# Altium integrated library FPGA Generic.IntLib: 1651 symbols (part 13 of 20)
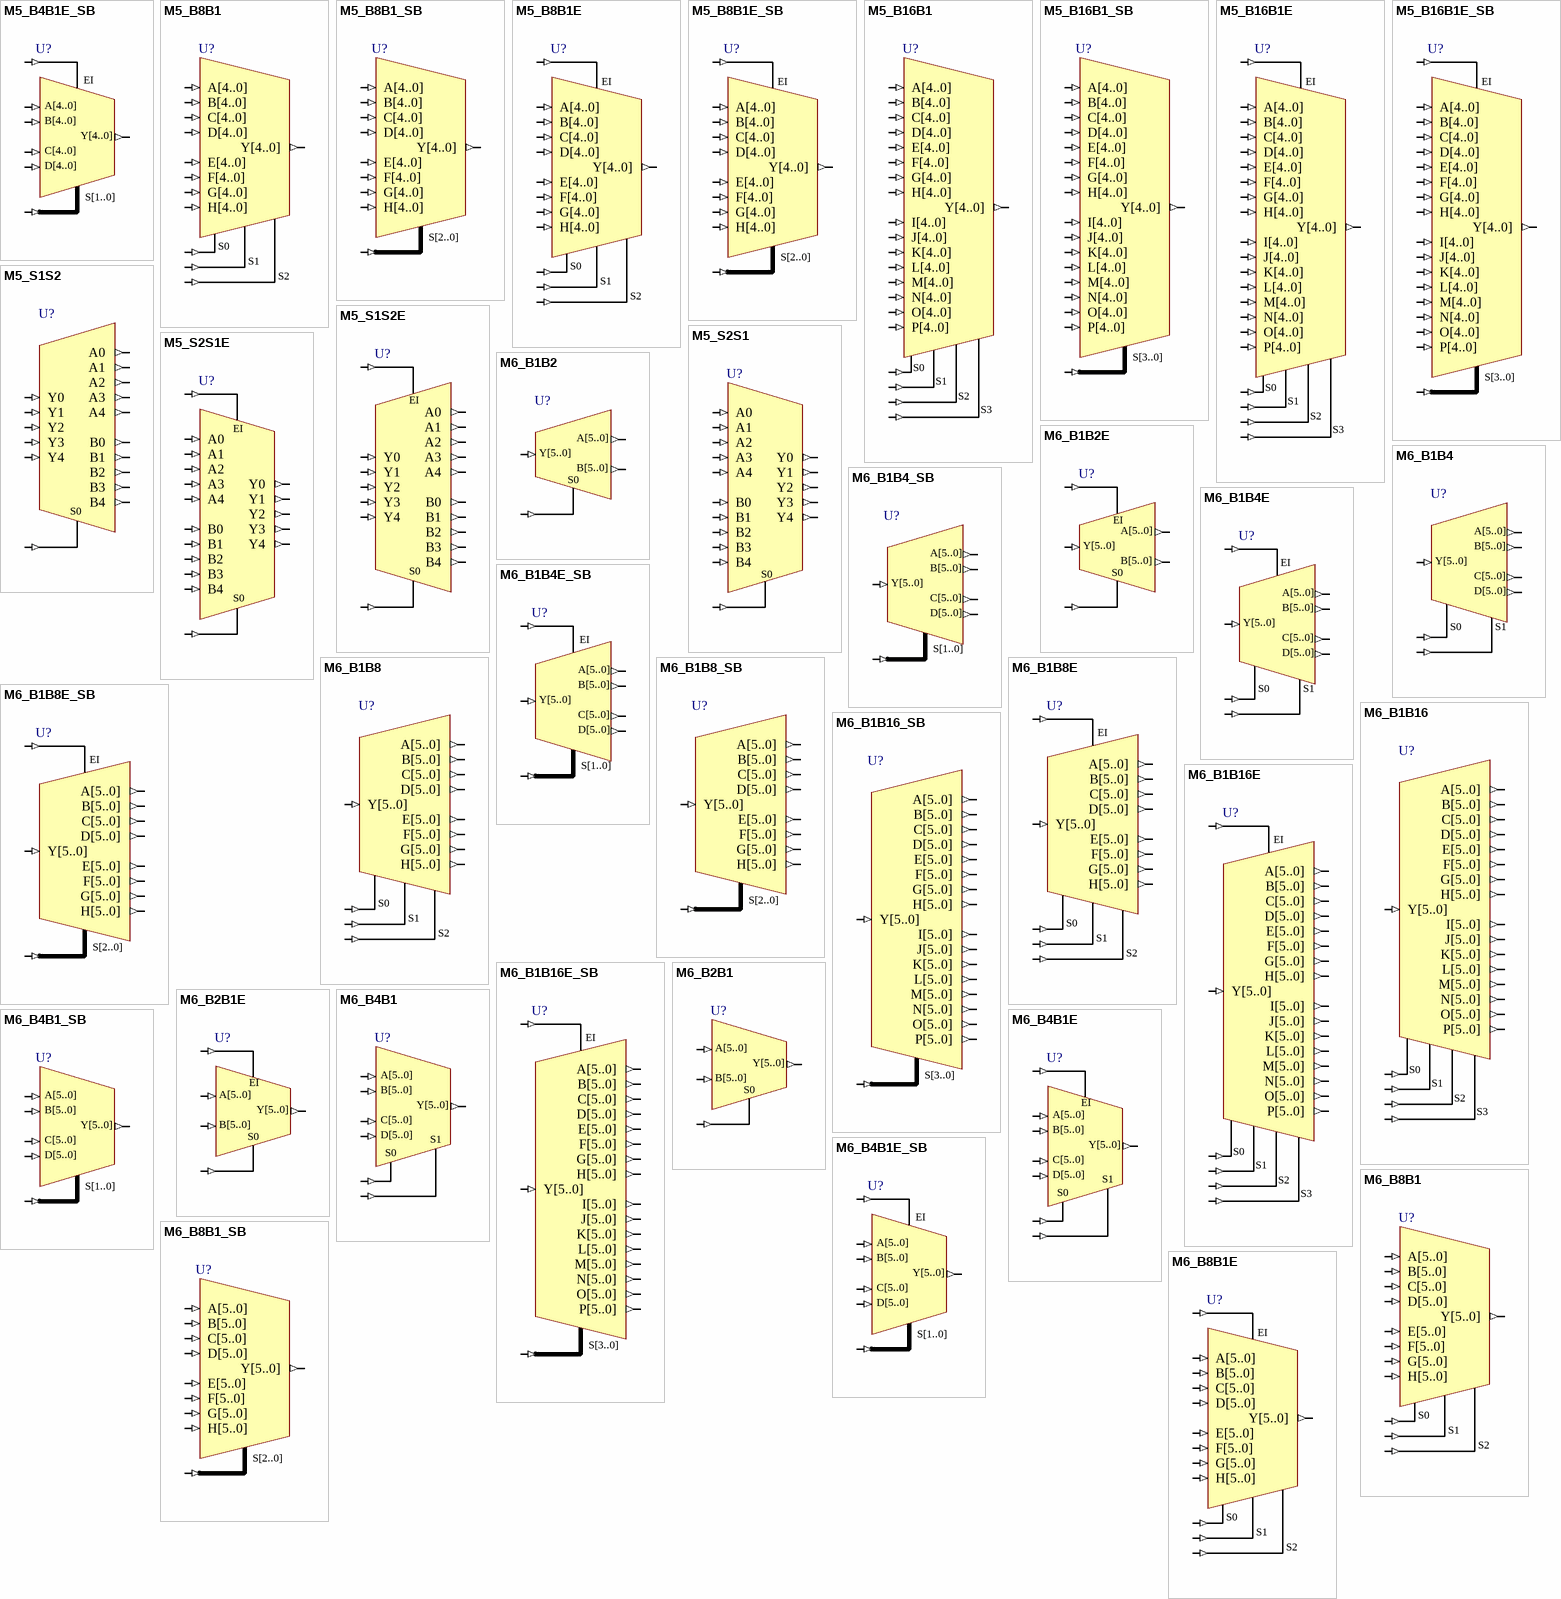
[diagram p55: symbols M5_B4B1E_SB to M6_B8B1E]

## M5_B8B1E
designator U?
8x5-Bit Bus to 1x5-Bit Bus Multiplexer With Enable; SubClass: BnB1; Enable: High; PortSize: 5; PortStyle: Bus Version; ArchiveName: GENERIC; VHDLIB_SIM: GENERIC_LIB; Published: 29-Jan-2004; Publisher: Altium Limited; LastRevisionNo: 1.00.00; HelpURL: CR0118 FPGA Generic Library Guide.pdf#page=383; ComponentLink1URL: CR0137 FPGA Multiplexer Resource Usage.pdf#page=214; ComponentLink1Description: Core &Resource Usage; FunctionalClass: Multiplexer
pins: A[4..0] (in), B[4..0] (in), C[4..0] (in), D[4..0] (in), E[4..0] (in), EI (in), F[4..0] (in), G[4..0] (in), H[4..0] (in), S0 (in), S1 (in), S2 (in), Y[4..0] (out)

## M5_B8B1E_SB
designator U?
8x5-Bit Bus to 1x5-Bit Bus Multiplexer With Enable With Bus Version Select; SubClass: BnB1; Enable: High; BusBusSelect: True; PortSize: 5; ArchiveName: GENERIC; VHDLIB_SIM: GENERIC_LIB; Published: 31-May-2004; Publisher: Altium Limited; LastRevisionNo: 1.00.00; HelpURL: CR0118 FPGA Generic Library Guide.pdf#page=383; ComponentLink1URL: CR0137 FPGA Multiplexer Resource Usage.pdf#page=215; ComponentLink1Description: Core &Resource Usage; FunctionalClass: Multiplexer; PortStyle: Bus Version
pins: A[4..0] (in), B[4..0] (in), C[4..0] (in), D[4..0] (in), E[4..0] (in), EI (in), F[4..0] (in), G[4..0] (in), H[4..0] (in), S[2..0] (in), Y[4..0] (out)

## M5_B16B1
designator U?
16x5-Bit Bus to 1x5-Bit Bus Multiplexer; SubClass: BnB1; PortSize: 5; PortStyle: Bus Version; ArchiveName: GENERIC; VHDLIB_SIM: GENERIC_LIB; Published: 29-Jan-2004; Publisher: Altium Limited; LastRevisionNo: 1.00.00; HelpURL: CR0118 FPGA Generic Library Guide.pdf#page=388; ComponentLink1URL: CR0137 FPGA Multiplexer Resource Usage.pdf#page=216; ComponentLink1Description: Core &Resource Usage; FunctionalClass: Multiplexer
pins: A[4..0] (in), B[4..0] (in), C[4..0] (in), D[4..0] (in), E[4..0] (in), F[4..0] (in), G[4..0] (in), H[4..0] (in), I[4..0] (in), J[4..0] (in), K[4..0] (in), L[4..0] (in), M[4..0] (in), N[4..0] (in), O[4..0] (in), P[4..0] (in), S0 (in), S1 (in), S2 (in), S3 (in), Y[4..0] (out)

## M5_B16B1_SB
designator U?
16x5-Bit Bus to 1x5-Bit Bus Multiplexer With Bus Version Select; SubClass: BnB1; BusBusSelect: True; PortSize: 5; ArchiveName: GENERIC; VHDLIB_SIM: GENERIC_LIB; Published: 29-Jan-2004; Publisher: Altium Limited; LastRevisionNo: 1.00.00; HelpURL: CR0118 FPGA Generic Library Guide.pdf#page=388; ComponentLink1URL: CR0137 FPGA Multiplexer Resource Usage.pdf#page=217; ComponentLink1Description: Core &Resource Usage; FunctionalClass: Multiplexer; PortStyle: Bus Version
pins: A[4..0] (in), B[4..0] (in), C[4..0] (in), D[4..0] (in), E[4..0] (in), F[4..0] (in), G[4..0] (in), H[4..0] (in), I[4..0] (in), J[4..0] (in), K[4..0] (in), L[4..0] (in), M[4..0] (in), N[4..0] (in), O[4..0] (in), P[4..0] (in), S[3..0] (in), Y[4..0] (out)

## M5_B16B1E
designator U?
16x5-Bit Bus to 1x5-Bit Bus Multiplexer With Enable; SubClass: BnB1; Enable: High; PortSize: 5; PortStyle: Bus Version; ArchiveName: GENERIC; VHDLIB_SIM: GENERIC_LIB; Published: 29-Jan-2004; Publisher: Altium Limited; LastRevisionNo: 1.00.00; HelpURL: CR0118 FPGA Generic Library Guide.pdf#page=393; ComponentLink1URL: CR0137 FPGA Multiplexer Resource Usage.pdf#page=218; ComponentLink1Description: Core &Resource Usage; FunctionalClass: Multiplexer
pins: A[4..0] (in), B[4..0] (in), C[4..0] (in), D[4..0] (in), E[4..0] (in), EI (in), F[4..0] (in), G[4..0] (in), H[4..0] (in), I[4..0] (in), J[4..0] (in), K[4..0] (in), L[4..0] (in), M[4..0] (in), N[4..0] (in), O[4..0] (in), P[4..0] (in), S0 (in), S1 (in), S2 (in), S3 (in), Y[4..0] (out)

## M5_B16B1E_SB
designator U?
16x5-Bit Bus to 1x5-Bit Bus Multiplexer With Enable and Bus Version Select; SubClass: BnB1; Enable: High; BusBusSelect: True; PortSize: 5; ArchiveName: GENERIC; VHDLIB_SIM: GENERIC_LIB; Published: 29-Jan-2004; Publisher: Altium Limited; LastRevisionNo: 1.00.00; HelpURL: CR0118 FPGA Generic Library Guide.pdf#page=393; ComponentLink1URL: CR0137 FPGA Multiplexer Resource Usage.pdf#page=219; ComponentLink1Description: Core &Resource Usage; FunctionalClass: Multiplexer; PortStyle: Bus Version
pins: A[4..0] (in), B[4..0] (in), C[4..0] (in), D[4..0] (in), E[4..0] (in), EI (in), F[4..0] (in), G[4..0] (in), H[4..0] (in), I[4..0] (in), J[4..0] (in), K[4..0] (in), L[4..0] (in), M[4..0] (in), N[4..0] (in), O[4..0] (in), P[4..0] (in), S[3..0] (in), Y[4..0] (out)

## M5_S1S2
designator U?
1x5-Single Wire to 1x5-Single Wire Multiplexer (Demultiplex); SubClass: S1Sn; PortSize: 5; PortStyle: Single Pin Version; ArchiveName: GENERIC; VHDLIB_SIM: GENERIC_LIB; Published: 29-Jan-2004; Publisher: Altium Limited; LastRevisionNo: 1.00.00; HelpURL: CR0118 FPGA Generic Library Guide.pdf#page=328; ComponentLink1URL: CR0137 FPGA Multiplexer Resource Usage.pdf#page=220; ComponentLink1Description: Core &Resource Usage; FunctionalClass: Multiplexer
pins: A0 (out), A1 (out), A2 (out), A3 (out), A4 (out), B0 (out), B1 (out), B2 (out), B3 (out), B4 (out), S0 (in), Y0 (in), Y1 (in), Y2 (in), Y3 (in), Y4 (in)

## M5_S1S2E
designator U?
1x5-Single Wire to 1x5-Single Wire Multiplexer (Demultiplex) With Enable; SubClass: S1Sn; Enable: High; PortSize: 5; PortStyle: Single Pin Version; ArchiveName: GENERIC; VHDLIB_SIM: GENERIC_LIB; Published: 29-Jan-2004; Publisher: Altium Limited; LastRevisionNo: 1.00.00; HelpURL: CR0118 FPGA Generic Library Guide.pdf#page=331; ComponentLink1URL: CR0137 FPGA Multiplexer Resource Usage.pdf#page=221; ComponentLink1Description: Core &Resource Usage; FunctionalClass: Multiplexer
pins: A0 (out), A1 (out), A2 (out), A3 (out), A4 (out), B0 (out), B1 (out), B2 (out), B3 (out), B4 (out), EI (in), S0 (in), Y0 (in), Y1 (in), Y2 (in), Y3 (in), Y4 (in)

## M5_S2S1
designator U?
2x5-Single Wire to 2x5-Single Wire Multiplexer; SubClass: S1Sn; PortSize: 5; PortStyle: Single Pin Version; ArchiveName: GENERIC; VHDLIB_SIM: GENERIC_LIB; Published: 29-Jan-2004; Publisher: Altium Limited; LastRevisionNo: 1.00.00; HelpURL: CR0118 FPGA Generic Library Guide.pdf#page=366; ComponentLink1URL: CR0137 FPGA Multiplexer Resource Usage.pdf#page=222; ComponentLink1Description: Core &Resource Usage; FunctionalClass: Multiplexer
pins: A0 (in), A1 (in), A2 (in), A3 (in), A4 (in), B0 (in), B1 (in), B2 (in), B3 (in), B4 (in), S0 (in), Y0 (out), Y1 (out), Y2 (out), Y3 (out), Y4 (out)

## M5_S2S1E
designator U?
2x5-Single Wire to 2x5-Single Wire Multiplexer With Enable; SubClass: SnS1; Enable: High; PortSize: 5; PortStyle: Single Pin Version; ArchiveName: GENERIC; VHDLIB_SIM: GENERIC_LIB; Published: 29-Jan-2004; Publisher: Altium Limited; LastRevisionNo: 1.00.00; HelpURL: CR0118 FPGA Generic Library Guide.pdf#page=366; ComponentLink1URL: CR0137 FPGA Multiplexer Resource Usage.pdf#page=223; ComponentLink1Description: Core &Resource Usage; FunctionalClass: Multiplexer
pins: A0 (in), A1 (in), A2 (in), A3 (in), A4 (in), B0 (in), B1 (in), B2 (in), B3 (in), B4 (in), EI (in), S0 (in), Y0 (out), Y1 (out), Y2 (out), Y3 (out), Y4 (out)

## M6_B1B2
designator U?
1x6-Bit Bus to 2x6-Bit Bus Multiplexer (Demultiplex); SubClass: B1Bn; PortSize: 6; PortStyle: Bus Version; ArchiveName: GENERIC; VHDLIB_SIM: GENERIC_LIB; Published: 29-Jan-2004; Publisher: Altium Limited; LastRevisionNo: 1.00.00; HelpURL: CR0118 FPGA Generic Library Guide.pdf#page=328; ComponentLink1URL: CR0137 FPGA Multiplexer Resource Usage.pdf#page=224; ComponentLink1Description: Core &Resource Usage; FunctionalClass: Multiplexer
pins: A[5..0] (out), B[5..0] (out), S0 (in), Y[5..0] (in)

## M6_B1B2E
designator U?
1x6-Bit Bus to 2x6-Bit Bus Multiplexer (Demultiplex) With Enable; SubClass: B1Bn; Enable: High; PortSize: 6; PortStyle: Bus Version; ArchiveName: GENERIC; VHDLIB_SIM: GENERIC_LIB; Published: 29-Jan-2004; Publisher: Altium Limited; LastRevisionNo: 1.00.00; HelpURL: CR0118 FPGA Generic Library Guide.pdf#page=331; ComponentLink1URL: CR0137 FPGA Multiplexer Resource Usage.pdf#page=225; ComponentLink1Description: Core &Resource Usage; FunctionalClass: Multiplexer
pins: A[5..0] (out), B[5..0] (out), EI (in), S0 (in), Y[5..0] (in)

## M6_B1B4
designator U?
1x6-Bit Bus to 4x6-Bit Bus Multiplexer (Demultiplex); SubClass: B1Bn; PortSize: 6; PortStyle: Bus Version; ArchiveName: GENERIC; VHDLIB_SIM: GENERIC_LIB; Published: 29-Jan-2004; Publisher: Altium Limited; LastRevisionNo: 1.00.00; HelpURL: CR0118 FPGA Generic Library Guide.pdf#page=335; ComponentLink1URL: CR0137 FPGA Multiplexer Resource Usage.pdf#page=226; ComponentLink1Description: Core &Resource Usage; FunctionalClass: Multiplexer
pins: A[5..0] (out), B[5..0] (out), C[5..0] (out), D[5..0] (out), S0 (in), S1 (in), Y[5..0] (in)

## M6_B1B4_SB
designator U?
1x6-Bit Bus to 4x6-Bit Bus Multiplexer (Demultiplex) With Bus Version Select; SubClass: B1Bn; BusBusSelect: True; PortSize: 6; ArchiveName: GENERIC; VHDLIB_SIM: GENERIC_LIB; Published: 31-May-2004; Publisher: Altium Limited; LastRevisionNo: 1.00.00; HelpURL: CR0118 FPGA Generic Library Guide.pdf#page=335; ComponentLink1URL: CR0137 FPGA Multiplexer Resource Usage.pdf#page=227; ComponentLink1Description: Core &Resource Usage; FunctionalClass: Multiplexer; PortStyle: Bus Version
pins: A[5..0] (out), B[5..0] (out), C[5..0] (out), D[5..0] (out), S[1..0] (in), Y[5..0] (in)

## M6_B1B4E
designator U?
1x6-Bit Bus to 4x6-Bit Bus Multiplexer (Demultiplex) With Enable; SubClass: B1Bn; Enable: High; PortSize: 6; PortStyle: Bus Version; ArchiveName: GENERIC; VHDLIB_SIM: GENERIC_LIB; Published: 29-Jan-2004; Publisher: Altium Limited; LastRevisionNo: 1.00.00; HelpURL: CR0118 FPGA Generic Library Guide.pdf#page=339; ComponentLink1URL: CR0137 FPGA Multiplexer Resource Usage.pdf#page=228; ComponentLink1Description: Core &Resource Usage; FunctionalClass: Multiplexer
pins: A[5..0] (out), B[5..0] (out), C[5..0] (out), D[5..0] (out), EI (in), S0 (in), S1 (in), Y[5..0] (in)

## M6_B1B4E_SB
designator U?
1x6-Bit Bus to 4x6-Bit Bus Multiplexer (Demultiplex) With Enable With Bus Version Select; SubClass: B1Bn; Enable: High; BusBusSelect: True; PortSize: 6; ArchiveName: GENERIC; VHDLIB_SIM: GENERIC_LIB; Published: 31-May-2004; Publisher: Altium Limited; LastRevisionNo: 1.00.00; HelpURL: CR0118 FPGA Generic Library Guide.pdf#page=339; ComponentLink1URL: CR0137 FPGA Multiplexer Resource Usage.pdf#page=229; ComponentLink1Description: Core &Resource Usage; FunctionalClass: Multiplexer; PortStyle: Bus Version
pins: A[5..0] (out), B[5..0] (out), C[5..0] (out), D[5..0] (out), EI (in), S[1..0] (in), Y[5..0] (in)

## M6_B1B8
designator U?
1x6-Bit Bus to 8x6-Bit Bus Multiplexer (Demultiplex); SubClass: B1Bn; PortSize: 6; PortStyle: Bus Version; ArchiveName: GENERIC; VHDLIB_SIM: GENERIC_LIB; Published: 29-Jan-2004; Publisher: Altium Limited; LastRevisionNo: 1.00.00; HelpURL: CR0118 FPGA Generic Library Guide.pdf#page=345; ComponentLink1URL: CR0137 FPGA Multiplexer Resource Usage.pdf#page=230; ComponentLink1Description: Core &Resource Usage; FunctionalClass: Multiplexer
pins: A[5..0] (out), B[5..0] (out), C[5..0] (out), D[5..0] (out), E[5..0] (out), F[5..0] (out), G[5..0] (out), H[5..0] (out), S0 (in), S1 (in), S2 (in), Y[5..0] (in)

## M6_B1B8_SB
designator U?
1x6-Bit Bus to 8x6-Bit Bus Multiplexer (Demultiplex) With Bus Version Select; SubClass: B1Bn; BusBusSelect: True; PortSize: 6; ArchiveName: GENERIC; VHDLIB_SIM: GENERIC_LIB; Published: 31-May-2004; Publisher: Altium Limited; LastRevisionNo: 1.00.00; HelpURL: CR0118 FPGA Generic Library Guide.pdf#page=345; ComponentLink1URL: CR0137 FPGA Multiplexer Resource Usage.pdf#page=231; ComponentLink1Description: Core &Resource Usage; FunctionalClass: Multiplexer; PortStyle: Bus Version
pins: A[5..0] (out), B[5..0] (out), C[5..0] (out), D[5..0] (out), E[5..0] (out), F[5..0] (out), G[5..0] (out), H[5..0] (out), S[2..0] (in), Y[5..0] (in)

## M6_B1B8E
designator U?
1x6-Bit Bus to 8x6-Bit Bus Multiplexer (Demultiplex) With Enable; SubClass: B1Bn; Enable: High; PortSize: 6; PortStyle: Bus Version; ArchiveName: GENERIC; VHDLIB_SIM: GENERIC_LIB; Published: 29-Jan-2004; Publisher: Altium Limited; LastRevisionNo: 1.00.00; HelpURL: CR0118 FPGA Generic Library Guide.pdf#page=350; ComponentLink1URL: CR0137 FPGA Multiplexer Resource Usage.pdf#page=232; ComponentLink1Description: Core &Resource Usage; FunctionalClass: Multiplexer
pins: A[5..0] (out), B[5..0] (out), C[5..0] (out), D[5..0] (out), E[5..0] (out), EI (in), F[5..0] (out), G[5..0] (out), H[5..0] (out), S0 (in), S1 (in), S2 (in), Y[5..0] (in)

## M6_B1B8E_SB
designator U?
1x6-Bit Bus to 8x6-Bit Bus Multiplexer (Demultiplex) With Enable With Bus Version Select; SubClass: B1Bn; Enable: High; BusBusSelect: True; PortSize: 6; ArchiveName: GENERIC; VHDLIB_SIM: GENERIC_LIB; Published: 31-May-2004; Publisher: Altium Limited; LastRevisionNo: 1.00.00; HelpURL: CR0118 FPGA Generic Library Guide.pdf#page=350; ComponentLink1URL: CR0137 FPGA Multiplexer Resource Usage.pdf#page=233; ComponentLink1Description: Core &Resource Usage; FunctionalClass: Multiplexer; PortStyle: Bus Version
pins: A[5..0] (out), B[5..0] (out), C[5..0] (out), D[5..0] (out), E[5..0] (out), EI (in), F[5..0] (out), G[5..0] (out), H[5..0] (out), S[2..0] (in), Y[5..0] (in)

## M6_B1B16
designator U?
1x6-Bit Bus to 16x6-Bit Bus Multiplexer (Demultiplex); SubClass: B1Bn; PortSize: 6; PortStyle: Bus Version; ArchiveName: GENERIC; VHDLIB_SIM: GENERIC_LIB; Published: 29-Jan-2004; Publisher: Altium Limited; LastRevisionNo: 1.00.00; HelpURL: CR0118 FPGA Generic Library Guide.pdf#page=355; ComponentLink1URL: CR0137 FPGA Multiplexer Resource Usage.pdf#page=234; ComponentLink1Description: Core &Resource Usage; FunctionalClass: Multiplexer
pins: A[5..0] (out), B[5..0] (out), C[5..0] (out), D[5..0] (out), E[5..0] (out), F[5..0] (out), G[5..0] (out), H[5..0] (out), I[5..0] (out), J[5..0] (out), K[5..0] (out), L[5..0] (out), M[5..0] (out), N[5..0] (out), O[5..0] (out), P[5..0] (out), S0 (in), S1 (in), S2 (in), S3 (in), Y[5..0] (in)

## M6_B1B16_SB
designator U?
1x6-Bit Bus to 16x6-Bit Bus Multiplexer (Demultiplex) With Bus Version Select; SubClass: B1Bn; BusBusSelect: True; PortSize: 6; ArchiveName: GENERIC; VHDLIB_SIM: GENERIC_LIB; Published: 29-Jan-2004; Publisher: Altium Limited; LastRevisionNo: 1.00.00; HelpURL: CR0118 FPGA Generic Library Guide.pdf#page=355; ComponentLink1URL: CR0137 FPGA Multiplexer Resource Usage.pdf#page=235; ComponentLink1Description: Core &Resource Usage; FunctionalClass: Multiplexer; PortStyle: Bus Version
pins: A[5..0] (out), B[5..0] (out), C[5..0] (out), D[5..0] (out), E[5..0] (out), F[5..0] (out), G[5..0] (out), H[5..0] (out), I[5..0] (out), J[5..0] (out), K[5..0] (out), L[5..0] (out), M[5..0] (out), N[5..0] (out), O[5..0] (out), P[5..0] (out), S[3..0] (in), Y[5..0] (in)

## M6_B1B16E
designator U?
1x6-Bit Bus to 16x6-Bit Bus Multiplexer (Demultiplex) With Enable; SubClass: B1Bn; Enable: High; PortSize: 6; PortStyle: Bus Version; ArchiveName: GENERIC; VHDLIB_SIM: GENERIC_LIB; Published: 29-Jan-2004; Publisher: Altium Limited; LastRevisionNo: 1.00.00; HelpURL: CR0118 FPGA Generic Library Guide.pdf#page=360; ComponentLink1URL: CR0137 FPGA Multiplexer Resource Usage.pdf#page=236; ComponentLink1Description: Core &Resource Usage; FunctionalClass: Multiplexer
pins: A[5..0] (out), B[5..0] (out), C[5..0] (out), D[5..0] (out), E[5..0] (out), EI (in), F[5..0] (out), G[5..0] (out), H[5..0] (out), I[5..0] (out), J[5..0] (out), K[5..0] (out), L[5..0] (out), M[5..0] (out), N[5..0] (out), O[5..0] (out), P[5..0] (out), S0 (in), S1 (in), S2 (in), S3 (in), Y[5..0] (in)

## M6_B1B16E_SB
designator U?
1x6-Bit Bus to 16x6-Bit Bus Multiplexer (Demultiplex) With Enable and Bus Version Select; SubClass: B1Bn; Enable: High; BusBusSelect: True; PortSize: 6; ArchiveName: GENERIC; VHDLIB_SIM: GENERIC_LIB; Published: 29-Jan-2004; Publisher: Altium Limited; LastRevisionNo: 1.00.00; HelpURL: CR0118 FPGA Generic Library Guide.pdf#page=355; ComponentLink1URL: CR0137 FPGA Multiplexer Resource Usage.pdf#page=237; ComponentLink1Description: Core &Resource Usage; FunctionalClass: Multiplexer; PortStyle: Bus Version
pins: A[5..0] (out), B[5..0] (out), C[5..0] (out), D[5..0] (out), E[5..0] (out), EI (in), F[5..0] (out), G[5..0] (out), H[5..0] (out), I[5..0] (out), J[5..0] (out), K[5..0] (out), L[5..0] (out), M[5..0] (out), N[5..0] (out), O[5..0] (out), P[5..0] (out), S[3..0] (in), Y[5..0] (in)

## M6_B2B1
designator U?
2x6-Bit Bus to 1x6-Bit Bus Multiplexer; SubClass: BnB1; PortSize: 6; PortStyle: Bus Version; ArchiveName: GENERIC; VHDLIB_SIM: GENERIC_LIB; Published: 29-Jan-2004; Publisher: Altium Limited; LastRevisionNo: 1.00.00; HelpURL: CR0118 FPGA Generic Library Guide.pdf#page=366; ComponentLink1URL: CR0137 FPGA Multiplexer Resource Usage.pdf#page=238; ComponentLink1Description: Core &Resource Usage; FunctionalClass: Multiplexer
pins: A[5..0] (in), B[5..0] (in), S0 (in), Y[5..0] (out)

## M6_B2B1E
designator U?
2x6-Bit Bus to 1x6-Bit Bus Multiplexer With Enable; SubClass: BnB1; Enable: High; PortSize: 6; PortStyle: Bus Version; ArchiveName: GENERIC; VHDLIB_SIM: GENERIC_LIB; Published: 29-Jan-2004; Publisher: Altium Limited; LastRevisionNo: 1.00.00; HelpURL: CR0118 FPGA Generic Library Guide.pdf#page=366; ComponentLink1URL: CR0137 FPGA Multiplexer Resource Usage.pdf#page=239; ComponentLink1Description: Core &Resource Usage; FunctionalClass: Multiplexer
pins: A[5..0] (in), B[5..0] (in), EI (in), S0 (in), Y[5..0] (out)

## M6_B4B1
designator U?
4x6-Bit Bus to 1x6-Bit Bus Multiplexer; SubClass: BnB1; PortSize: 6; PortStyle: Bus Version; ArchiveName: GENERIC; VHDLIB_SIM: GENERIC_LIB; Published: 29-Jan-2004; Publisher: Altium Limited; LastRevisionNo: 1.00.00; HelpURL: CR0118 FPGA Generic Library Guide.pdf#page=374; ComponentLink1URL: CR0137 FPGA Multiplexer Resource Usage.pdf#page=240; ComponentLink1Description: Core &Resource Usage; FunctionalClass: Multiplexer
pins: A[5..0] (in), B[5..0] (in), C[5..0] (in), D[5..0] (in), S0 (in), S1 (in), Y[5..0] (out)

## M6_B4B1_SB
designator U?
4x6-Bit Bus to 1x6-Bit Bus Multiplexer With Bus Version Select; SubClass: BnB1; BusBusSelect: True; PortSize: 6; ArchiveName: GENERIC; VHDLIB_SIM: GENERIC_LIB; Published: 31-May-2004; Publisher: Altium Limited; LastRevisionNo: 1.00.00; HelpURL: CR0118 FPGA Generic Library Guide.pdf#page=370; ComponentLink1URL: CR0137 FPGA Multiplexer Resource Usage.pdf#page=241; ComponentLink1Description: Core &Resource Usage; FunctionalClass: Multiplexer; PortStyle: Bus Version
pins: A[5..0] (in), B[5..0] (in), C[5..0] (in), D[5..0] (in), S[1..0] (in), Y[5..0] (out)

## M6_B4B1E
designator U?
4x6-Bit Bus to 1x6-Bit Bus Multiplexer With Enable; SubClass: BnB1; Enable: High; PortSize: 6; PortStyle: Bus Version; ArchiveName: GENERIC; VHDLIB_SIM: GENERIC_LIB; Published: 29-Jan-2004; Publisher: Altium Limited; LastRevisionNo: 1.00.00; HelpURL: CR0118 FPGA Generic Library Guide.pdf#page=374; ComponentLink1URL: CR0137 FPGA Multiplexer Resource Usage.pdf#page=242; ComponentLink1Description: Core &Resource Usage; FunctionalClass: Multiplexer
pins: A[5..0] (in), B[5..0] (in), C[5..0] (in), D[5..0] (in), EI (in), S0 (in), S1 (in), Y[5..0] (out)

## M6_B4B1E_SB
designator U?
4x6-Bit Bus to 1x6-Bit Bus Multiplexer With Enable With Bus Version Select; SubClass: BnB1; Enable: High; BusBusSelect: True; PortSize: 6; ArchiveName: GENERIC; VHDLIB_SIM: GENERIC_LIB; Published: 31-May-2004; Publisher: Altium Limited; LastRevisionNo: 1.00.00; HelpURL: CR0118 FPGA Generic Library Guide.pdf#page=374; ComponentLink1URL: CR0137 FPGA Multiplexer Resource Usage.pdf#page=243; ComponentLink1Description: Core &Resource Usage; FunctionalClass: Multiplexer; PortStyle: Bus Version
pins: A[5..0] (in), B[5..0] (in), C[5..0] (in), D[5..0] (in), EI (in), S[1..0] (in), Y[5..0] (out)

## M6_B8B1
designator U?
8x6-Bit Bus to 1x6-Bit Bus Multiplexer; SubClass: BnB1; PortSize: 6; PortStyle: Bus Version; ArchiveName: GENERIC; VHDLIB_SIM: GENERIC_LIB; Published: 29-Jan-2004; Publisher: Altium Limited; LastRevisionNo: 1.00.00; HelpURL: CR0118 FPGA Generic Library Guide.pdf#page=383; ComponentLink1URL: CR0137 FPGA Multiplexer Resource Usage.pdf#page=244; ComponentLink1Description: Core &Resource Usage; FunctionalClass: Multiplexer
pins: A[5..0] (in), B[5..0] (in), C[5..0] (in), D[5..0] (in), E[5..0] (in), F[5..0] (in), G[5..0] (in), H[5..0] (in), S0 (in), S1 (in), S2 (in), Y[5..0] (out)

## M6_B8B1_SB
designator U?
8x6-Bit Bus to 1x6-Bit Bus Multiplexer With Bus Version Select; SubClass: BnB1; BusBusSelect: True; PortSize: 6; ArchiveName: GENERIC; VHDLIB_SIM: GENERIC_LIB; Published: 31-May-2004; Publisher: Altium Limited; LastRevisionNo: 1.00.00; HelpURL: CR0118 FPGA Generic Library Guide.pdf#page=379; ComponentLink1URL: CR0137 FPGA Multiplexer Resource Usage.pdf#page=245; ComponentLink1Description: Core &Resource Usage; FunctionalClass: Multiplexer; PortStyle: Bus Version
pins: A[5..0] (in), B[5..0] (in), C[5..0] (in), D[5..0] (in), E[5..0] (in), F[5..0] (in), G[5..0] (in), H[5..0] (in), S[2..0] (in), Y[5..0] (out)

## M6_B8B1E
designator U?
8x6-Bit Bus to 1x6-Bit Bus Multiplexer With Enable; SubClass: BnB1; Enable: High; PortSize: 6; PortStyle: Bus Version; ArchiveName: GENERIC; VHDLIB_SIM: GENERIC_LIB; Published: 29-Jan-2004; Publisher: Altium Limited; LastRevisionNo: 1.00.00; HelpURL: CR0118 FPGA Generic Library Guide.pdf#page=383; ComponentLink1URL: CR0137 FPGA Multiplexer Resource Usage.pdf#page=246; ComponentLink1Description: Core &Resource Usage; FunctionalClass: Multiplexer
pins: A[5..0] (in), B[5..0] (in), C[5..0] (in), D[5..0] (in), E[5..0] (in), EI (in), F[5..0] (in), G[5..0] (in), H[5..0] (in), S0 (in), S1 (in), S2 (in), Y[5..0] (out)

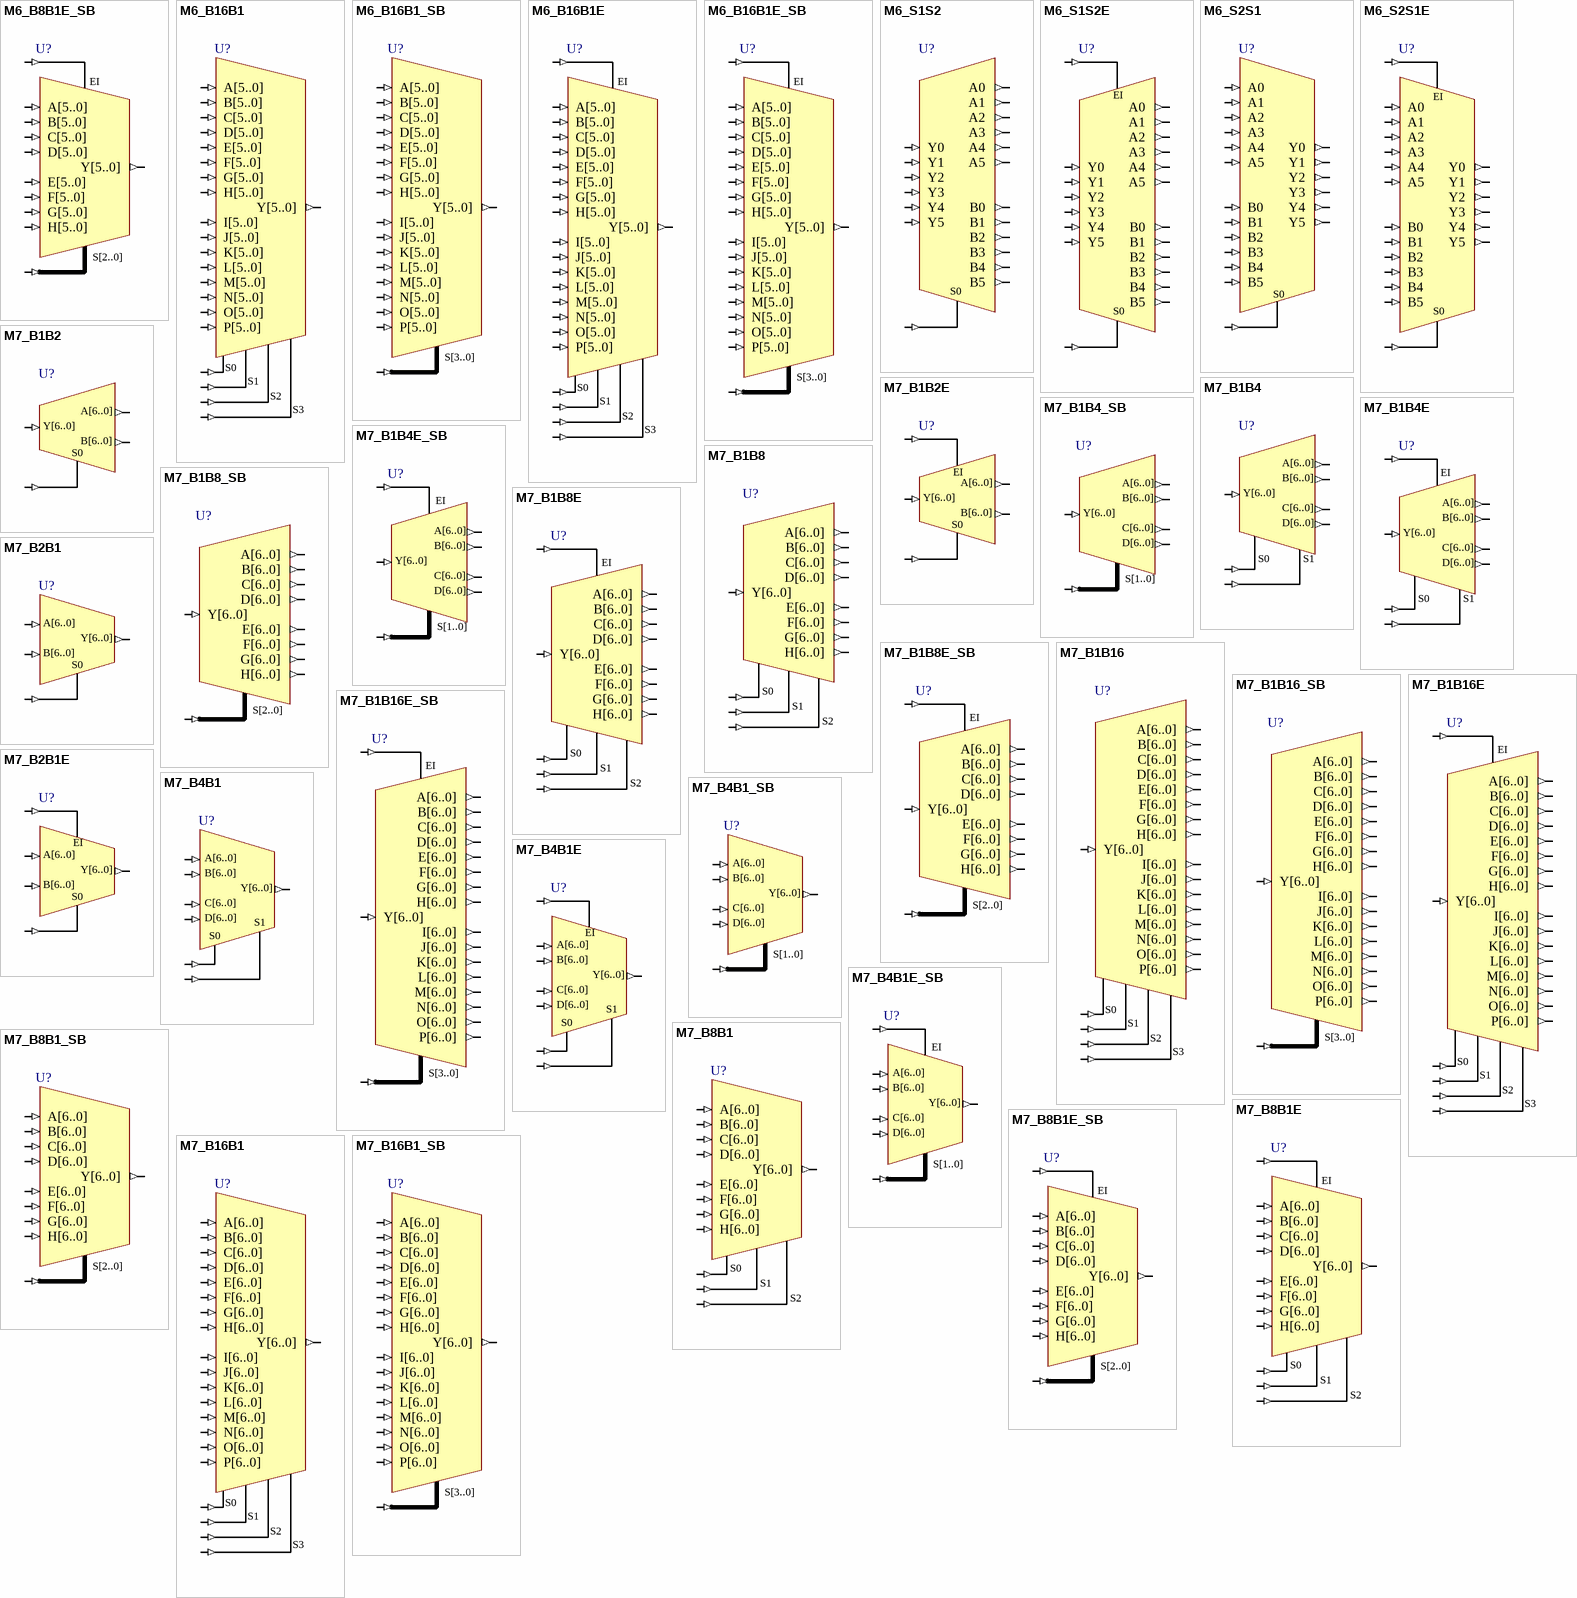
[diagram p27: symbols M6_B8B1E_SB to M7_B16B1_SB]

## M6_B8B1E_SB
designator U?
8x6-Bit Bus to 1x6-Bit Bus Multiplexer With Enable With Bus Version Select; SubClass: BnB1; Enable: High; BusBusSelect: True; PortSize: 6; ArchiveName: GENERIC; VHDLIB_SIM: GENERIC_LIB; Published: 31-May-2004; Publisher: Altium Limited; LastRevisionNo: 1.00.00; HelpURL: CR0118 FPGA Generic Library Guide.pdf#page=383; ComponentLink1URL: CR0137 FPGA Multiplexer Resource Usage.pdf#page=247; ComponentLink1Description: Core &Resource Usage; FunctionalClass: Multiplexer; PortStyle: Bus Version
pins: A[5..0] (in), B[5..0] (in), C[5..0] (in), D[5..0] (in), E[5..0] (in), EI (in), F[5..0] (in), G[5..0] (in), H[5..0] (in), S[2..0] (in), Y[5..0] (out)

## M6_B16B1
designator U?
16x6-Bit Bus to 1x6-Bit Bus Multiplexer; SubClass: BnB1; PortSize: 6; PortStyle: Bus Version; ArchiveName: GENERIC; VHDLIB_SIM: GENERIC_LIB; Published: 29-Jan-2004; Publisher: Altium Limited; LastRevisionNo: 1.00.00; HelpURL: CR0118 FPGA Generic Library Guide.pdf#page=388; ComponentLink1URL: CR0137 FPGA Multiplexer Resource Usage.pdf#page=248; ComponentLink1Description: Core &Resource Usage; FunctionalClass: Multiplexer
pins: A[5..0] (in), B[5..0] (in), C[5..0] (in), D[5..0] (in), E[5..0] (in), F[5..0] (in), G[5..0] (in), H[5..0] (in), I[5..0] (in), J[5..0] (in), K[5..0] (in), L[5..0] (in), M[5..0] (in), N[5..0] (in), O[5..0] (in), P[5..0] (in), S0 (in), S1 (in), S2 (in), S3 (in), Y[5..0] (out)

## M6_B16B1_SB
designator U?
16x6-Bit Bus to 1x6-Bit Bus Multiplexer With Bus Version Select; SubClass: BnB1; BusBusSelect: True; PortSize: 6; ArchiveName: GENERIC; VHDLIB_SIM: GENERIC_LIB; Published: 29-Jan-2004; Publisher: Altium Limited; LastRevisionNo: 1.00.00; HelpURL: CR0118 FPGA Generic Library Guide.pdf#page=388; ComponentLink1URL: CR0137 FPGA Multiplexer Resource Usage.pdf#page=249; ComponentLink1Description: Core &Resource Usage; FunctionalClass: Multiplexer; PortStyle: Bus Version
pins: A[5..0] (in), B[5..0] (in), C[5..0] (in), D[5..0] (in), E[5..0] (in), F[5..0] (in), G[5..0] (in), H[5..0] (in), I[5..0] (in), J[5..0] (in), K[5..0] (in), L[5..0] (in), M[5..0] (in), N[5..0] (in), O[5..0] (in), P[5..0] (in), S[3..0] (in), Y[5..0] (out)

## M6_B16B1E
designator U?
16x6-Bit Bus to 1x6-Bit Bus Multiplexer With Enable; SubClass: BnB1; Enable: High; PortSize: 6; PortStyle: Bus Version; ArchiveName: GENERIC; VHDLIB_SIM: GENERIC_LIB; Published: 29-Jan-2004; Publisher: Altium Limited; LastRevisionNo: 1.00.00; HelpURL: CR0118 FPGA Generic Library Guide.pdf#page=393; ComponentLink1URL: CR0137 FPGA Multiplexer Resource Usage.pdf#page=250; ComponentLink1Description: Core &Resource Usage; FunctionalClass: Multiplexer
pins: A[5..0] (in), B[5..0] (in), C[5..0] (in), D[5..0] (in), E[5..0] (in), EI (in), F[5..0] (in), G[5..0] (in), H[5..0] (in), I[5..0] (in), J[5..0] (in), K[5..0] (in), L[5..0] (in), M[5..0] (in), N[5..0] (in), O[5..0] (in), P[5..0] (in), S0 (in), S1 (in), S2 (in), S3 (in), Y[5..0] (out)

## M6_B16B1E_SB
designator U?
16x6-Bit Bus to 1x6-Bit Bus Multiplexer With Enable and Bus Version Select; SubClass: BnB1; Enable: High; BusBusSelect: True; PortSize: 6; ArchiveName: GENERIC; VHDLIB_SIM: GENERIC_LIB; Published: 29-Jan-2004; Publisher: Altium Limited; LastRevisionNo: 1.00.00; HelpURL: CR0118 FPGA Generic Library Guide.pdf#page=393; ComponentLink1URL: CR0137 FPGA Multiplexer Resource Usage.pdf#page=251; ComponentLink1Description: Core &Resource Usage; FunctionalClass: Multiplexer; PortStyle: Bus Version
pins: A[5..0] (in), B[5..0] (in), C[5..0] (in), D[5..0] (in), E[5..0] (in), EI (in), F[5..0] (in), G[5..0] (in), H[5..0] (in), I[5..0] (in), J[5..0] (in), K[5..0] (in), L[5..0] (in), M[5..0] (in), N[5..0] (in), O[5..0] (in), P[5..0] (in), S[3..0] (in), Y[5..0] (out)

## M6_S1S2
designator U?
1x6-Single Wire to 1x6-Single Wire Multiplexer (Demultiplex); SubClass: S1Sn; PortSize: 6; PortStyle: Single Pin Version; ArchiveName: GENERIC; VHDLIB_SIM: GENERIC_LIB; Published: 29-Jan-2004; Publisher: Altium Limited; LastRevisionNo: 1.00.00; HelpURL: CR0118 FPGA Generic Library Guide.pdf#page=328; ComponentLink1URL: CR0137 FPGA Multiplexer Resource Usage.pdf#page=252; ComponentLink1Description: Core &Resource Usage; FunctionalClass: Multiplexer
pins: A0 (out), A1 (out), A2 (out), A3 (out), A4 (out), A5 (out), B0 (out), B1 (out), B2 (out), B3 (out), B4 (out), B5 (out), S0 (in), Y0 (in), Y1 (in), Y2 (in), Y3 (in), Y4 (in), Y5 (in)

## M6_S1S2E
designator U?
1x6-Single Wire to 1x6-Single Wire Multiplexer (Demultiplex) With Enable; SubClass: S1Sn; Enable: High; PortSize: 6; PortStyle: Single Pin Version; ArchiveName: GENERIC; VHDLIB_SIM: GENERIC_LIB; Published: 29-Jan-2004; Publisher: Altium Limited; LastRevisionNo: 1.00.00; HelpURL: CR0118 FPGA Generic Library Guide.pdf#page=331; ComponentLink1URL: CR0137 FPGA Multiplexer Resource Usage.pdf#page=253; ComponentLink1Description: Core &Resource Usage; FunctionalClass: Multiplexer
pins: A0 (out), A1 (out), A2 (out), A3 (out), A4 (out), A5 (out), B0 (out), B1 (out), B2 (out), B3 (out), B4 (out), B5 (out), EI (in), S0 (in), Y0 (in), Y1 (in), Y2 (in), Y3 (in), Y4 (in), Y5 (in)

## M6_S2S1
designator U?
2x6-Single Wire to 2x6-Single Wire Multiplexer; SubClass: SnS1; PortSize: 6; PortStyle: Single Pin Version; ArchiveName: GENERIC; VHDLIB_SIM: GENERIC_LIB; Published: 29-Jan-2004; Publisher: Altium Limited; LastRevisionNo: 1.00.00; HelpURL: CR0118 FPGA Generic Library Guide.pdf#page=366; ComponentLink1URL: CR0137 FPGA Multiplexer Resource Usage.pdf#page=254; ComponentLink1Description: Core &Resource Usage; FunctionalClass: Multiplexer
pins: A0 (in), A1 (in), A2 (in), A3 (in), A4 (in), A5 (in), B0 (in), B1 (in), B2 (in), B3 (in), B4 (in), B5 (in), S0 (in), Y0 (out), Y1 (out), Y2 (out), Y3 (out), Y4 (out), Y5 (out)

## M6_S2S1E
designator U?
2x6-Single Wire to 2x6-Single Wire Multiplexer With Enable; SubClass: SnS1; Enable: High; PortSize: 6; PortStyle: Single Pin Version; ArchiveName: GENERIC; VHDLIB_SIM: GENERIC_LIB; Published: 29-Jan-2004; Publisher: Altium Limited; LastRevisionNo: 1.00.00; HelpURL: CR0118 FPGA Generic Library Guide.pdf#page=366; ComponentLink1URL: CR0137 FPGA Multiplexer Resource Usage.pdf#page=255; ComponentLink1Description: Core &Resource Usage; FunctionalClass: Multiplexer
pins: A0 (in), A1 (in), A2 (in), A3 (in), A4 (in), A5 (in), B0 (in), B1 (in), B2 (in), B3 (in), B4 (in), B5 (in), EI (in), S0 (in), Y0 (out), Y1 (out), Y2 (out), Y3 (out), Y4 (out), Y5 (out)

## M7_B1B2
designator U?
1x7-Bit Bus to 2x7-Bit Bus Multiplexer (Demultiplex); SubClass: B1Bn; PortSize: 7; PortStyle: Bus Version; ArchiveName: GENERIC; VHDLIB_SIM: GENERIC_LIB; Published: 29-Jan-2004; Publisher: Altium Limited; LastRevisionNo: 1.00.00; HelpURL: CR0118 FPGA Generic Library Guide.pdf#page=328; ComponentLink1URL: CR0137 FPGA Multiplexer Resource Usage.pdf#page=256; ComponentLink1Description: Core &Resource Usage; FunctionalClass: Multiplexer
pins: A[6..0] (out), B[6..0] (out), S0 (in), Y[6..0] (in)

## M7_B1B2E
designator U?
1x7-Bit Bus to 2x7-Bit Bus Multiplexer (Demultiplex) With Enable; SubClass: B1Bn; Enable: High; PortSize: 7; PortStyle: Bus Version; ArchiveName: GENERIC; VHDLIB_SIM: GENERIC_LIB; Published: 29-Jan-2004; Publisher: Altium Limited; LastRevisionNo: 1.00.00; HelpURL: CR0118 FPGA Generic Library Guide.pdf#page=331; ComponentLink1URL: CR0137 FPGA Multiplexer Resource Usage.pdf#page=257; ComponentLink1Description: Core &Resource Usage; FunctionalClass: Multiplexer
pins: A[6..0] (out), B[6..0] (out), EI (in), S0 (in), Y[6..0] (in)

## M7_B1B4
designator U?
1x7-Bit Bus to 4x7-Bit Bus Multiplexer (Demultiplex); SubClass: B1Bn; PortSize: 7; PortStyle: Bus Version; ArchiveName: GENERIC; VHDLIB_SIM: GENERIC_LIB; Published: 29-Jan-2004; Publisher: Altium Limited; LastRevisionNo: 1.00.00; HelpURL: CR0118 FPGA Generic Library Guide.pdf#page=335; ComponentLink1URL: CR0137 FPGA Multiplexer Resource Usage.pdf#page=258; ComponentLink1Description: Core &Resource Usage; FunctionalClass: Multiplexer
pins: A[6..0] (out), B[6..0] (out), C[6..0] (out), D[6..0] (out), S0 (in), S1 (in), Y[6..0] (in)

## M7_B1B4_SB
designator U?
1x7-Bit Bus to 4x7-Bit Bus Multiplexer (Demultiplex) With Bus Version Select; SubClass: B1Bn; BusBusSelect: True; PortSize: 7; ArchiveName: GENERIC; VHDLIB_SIM: GENERIC_LIB; Published: 31-May-2004; Publisher: Altium Limited; LastRevisionNo: 1.00.00; HelpURL: CR0118 FPGA Generic Library Guide.pdf#page=335; ComponentLink1URL: CR0137 FPGA Multiplexer Resource Usage.pdf#page=259; ComponentLink1Description: Core &Resource Usage; FunctionalClass: Multiplexer; PortStyle: Bus Version
pins: A[6..0] (out), B[6..0] (out), C[6..0] (out), D[6..0] (out), S[1..0] (in), Y[6..0] (in)

## M7_B1B4E
designator U?
1x7-Bit Bus to 4x7-Bit Bus Multiplexer (Demultiplex) With Enable; SubClass: B1Bn; Enable: High; PortSize: 7; PortStyle: Bus Version; ArchiveName: GENERIC; VHDLIB_SIM: GENERIC_LIB; Published: 29-Jan-2004; Publisher: Altium Limited; LastRevisionNo: 1.00.00; HelpURL: CR0118 FPGA Generic Library Guide.pdf#page=339; ComponentLink1URL: CR0137 FPGA Multiplexer Resource Usage.pdf#page=260; ComponentLink1Description: Core &Resource Usage; FunctionalClass: Multiplexer
pins: A[6..0] (out), B[6..0] (out), C[6..0] (out), D[6..0] (out), EI (in), S0 (in), S1 (in), Y[6..0] (in)

## M7_B1B4E_SB
designator U?
1x7-Bit Bus to 4x7-Bit Bus Multiplexer (Demultiplex) With Enable With Bus Version Select; SubClass: B1Bn; Enable: High; BusBusSelect: True; PortSize: 7; ArchiveName: GENERIC; VHDLIB_SIM: GENERIC_LIB; Published: 31-May-2004; Publisher: Altium Limited; LastRevisionNo: 1.00.00; HelpURL: CR0118 FPGA Generic Library Guide.pdf#page=339; ComponentLink1URL: CR0137 FPGA Multiplexer Resource Usage.pdf#page=261; ComponentLink1Description: Core &Resource Usage; FunctionalClass: Multiplexer; PortStyle: Bus Version
pins: A[6..0] (out), B[6..0] (out), C[6..0] (out), D[6..0] (out), EI (in), S[1..0] (in), Y[6..0] (in)

## M7_B1B8
designator U?
1x7-Bit Bus to 8x7-Bit Bus Multiplexer (Demultiplex); SubClass: B1Bn; PortSize: 7; PortStyle: Bus Version; ArchiveName: GENERIC; VHDLIB_SIM: GENERIC_LIB; Published: 29-Jan-2004; Publisher: Altium Limited; LastRevisionNo: 1.00.00; HelpURL: CR0118 FPGA Generic Library Guide.pdf#page=345; ComponentLink1URL: CR0137 FPGA Multiplexer Resource Usage.pdf#page=262; ComponentLink1Description: Core &Resource Usage; FunctionalClass: Multiplexer
pins: A[6..0] (out), B[6..0] (out), C[6..0] (out), D[6..0] (out), E[6..0] (out), F[6..0] (out), G[6..0] (out), H[6..0] (out), S0 (in), S1 (in), S2 (in), Y[6..0] (in)

## M7_B1B8_SB
designator U?
1x7-Bit Bus to 8x7-Bit Bus Multiplexer (Demultiplex) With Bus Version Select; SubClass: B1Bn; BusBusSelect: True; PortSize: 7; ArchiveName: GENERIC; VHDLIB_SIM: GENERIC_LIB; Published: 31-May-2004; Publisher: Altium Limited; LastRevisionNo: 1.00.00; HelpURL: CR0118 FPGA Generic Library Guide.pdf#page=345; ComponentLink1URL: CR0137 FPGA Multiplexer Resource Usage.pdf#page=263; ComponentLink1Description: Core &Resource Usage; FunctionalClass: Multiplexer; PortStyle: Bus Version
pins: A[6..0] (out), B[6..0] (out), C[6..0] (out), D[6..0] (out), E[6..0] (out), F[6..0] (out), G[6..0] (out), H[6..0] (out), S[2..0] (in), Y[6..0] (in)

## M7_B1B8E
designator U?
1x7-Bit Bus to 8x7-Bit Bus Multiplexer (Demultiplex) With Enable; SubClass: B1Bn; Enable: High; PortSize: 7; PortStyle: Bus Version; ArchiveName: GENERIC; VHDLIB_SIM: GENERIC_LIB; Published: 29-Jan-2004; Publisher: Altium Limited; LastRevisionNo: 1.00.00; HelpURL: CR0118 FPGA Generic Library Guide.pdf#page=350; ComponentLink1URL: CR0137 FPGA Multiplexer Resource Usage.pdf#page=264; ComponentLink1Description: Core &Resource Usage; FunctionalClass: Multiplexer
pins: A[6..0] (out), B[6..0] (out), C[6..0] (out), D[6..0] (out), E[6..0] (out), EI (in), F[6..0] (out), G[6..0] (out), H[6..0] (out), S0 (in), S1 (in), S2 (in), Y[6..0] (in)

## M7_B1B8E_SB
designator U?
1x7-Bit Bus to 8x7-Bit Bus Multiplexer (Demultiplex) With Enable With Bus Version Select; SubClass: B1Bn; Enable: High; BusBusSelect: True; PortSize: 7; ArchiveName: GENERIC; VHDLIB_SIM: GENERIC_LIB; Published: 31-May-2004; Publisher: Altium Limited; LastRevisionNo: 1.00.00; HelpURL: CR0118 FPGA Generic Library Guide.pdf#page=350; ComponentLink1URL: CR0137 FPGA Multiplexer Resource Usage.pdf#page=265; ComponentLink1Description: Core &Resource Usage; FunctionalClass: Multiplexer; PortStyle: Bus Version
pins: A[6..0] (out), B[6..0] (out), C[6..0] (out), D[6..0] (out), E[6..0] (out), EI (in), F[6..0] (out), G[6..0] (out), H[6..0] (out), S[2..0] (in), Y[6..0] (in)

## M7_B1B16
designator U?
1x7-Bit Bus to 16x7-Bit Bus Multiplexer (Demultiplex); SubClass: B1Bn; PortSize: 7; PortStyle: Bus Version; ArchiveName: GENERIC; VHDLIB_SIM: GENERIC_LIB; Published: 29-Jan-2004; Publisher: Altium Limited; LastRevisionNo: 1.00.00; HelpURL: CR0118 FPGA Generic Library Guide.pdf#page=355; ComponentLink1URL: CR0137 FPGA Multiplexer Resource Usage.pdf#page=266; ComponentLink1Description: Core &Resource Usage; FunctionalClass: Multiplexer
pins: A[6..0] (out), B[6..0] (out), C[6..0] (out), D[6..0] (out), E[6..0] (out), F[6..0] (out), G[6..0] (out), H[6..0] (out), I[6..0] (out), J[6..0] (out), K[6..0] (out), L[6..0] (out), M[6..0] (out), N[6..0] (out), O[6..0] (out), P[6..0] (out), S0 (in), S1 (in), S2 (in), S3 (in), Y[6..0] (in)

## M7_B1B16_SB
designator U?
1x7-Bit Bus to 16x7-Bit Bus Multiplexer (Demultiplex) With Bus Version Select; SubClass: B1Bn; BusBusSelect: True; PortSize: 7; ArchiveName: GENERIC; VHDLIB_SIM: GENERIC_LIB; Published: 29-Jan-2004; Publisher: Altium Limited; LastRevisionNo: 1.00.00; HelpURL: CR0118 FPGA Generic Library Guide.pdf#page=355; ComponentLink1URL: CR0137 FPGA Multiplexer Resource Usage.pdf#page=267; ComponentLink1Description: Core &Resource Usage; FunctionalClass: Multiplexer; PortStyle: Bus Version
pins: A[6..0] (out), B[6..0] (out), C[6..0] (out), D[6..0] (out), E[6..0] (out), F[6..0] (out), G[6..0] (out), H[6..0] (out), I[6..0] (out), J[6..0] (out), K[6..0] (out), L[6..0] (out), M[6..0] (out), N[6..0] (out), O[6..0] (out), P[6..0] (out), S[3..0] (in), Y[6..0] (in)

## M7_B1B16E
designator U?
1x7-Bit Bus to 16x7-Bit Bus Multiplexer (Demultiplex) With Enable; SubClass: B1Bn; Enable: High; PortSize: 7; PortStyle: Bus Version; ArchiveName: GENERIC; VHDLIB_SIM: GENERIC_LIB; Published: 29-Jan-2004; Publisher: Altium Limited; LastRevisionNo: 1.00.00; HelpURL: CR0118 FPGA Generic Library Guide.pdf#page=360; ComponentLink1URL: CR0137 FPGA Multiplexer Resource Usage.pdf#page=268; ComponentLink1Description: Core &Resource Usage; FunctionalClass: Multiplexer
pins: A[6..0] (out), B[6..0] (out), C[6..0] (out), D[6..0] (out), E[6..0] (out), EI (in), F[6..0] (out), G[6..0] (out), H[6..0] (out), I[6..0] (out), J[6..0] (out), K[6..0] (out), L[6..0] (out), M[6..0] (out), N[6..0] (out), O[6..0] (out), P[6..0] (out), S0 (in), S1 (in), S2 (in), S3 (in), Y[6..0] (in)

## M7_B1B16E_SB
designator U?
1x7-Bit Bus to 16x7-Bit Bus Multiplexer (Demultiplex) With Enable and Bus Version Select; SubClass: B1Bn; Enable: High; BusBusSelect: True; PortSize: 7; ArchiveName: GENERIC; VHDLIB_SIM: GENERIC_LIB; Published: 29-Jan-2004; Publisher: Altium Limited; LastRevisionNo: 1.00.00; HelpURL: CR0118 FPGA Generic Library Guide.pdf#page=355; ComponentLink1URL: CR0137 FPGA Multiplexer Resource Usage.pdf#page=269; ComponentLink1Description: Core &Resource Usage; FunctionalClass: Multiplexer; PortStyle: Bus Version
pins: A[6..0] (out), B[6..0] (out), C[6..0] (out), D[6..0] (out), E[6..0] (out), EI (in), F[6..0] (out), G[6..0] (out), H[6..0] (out), I[6..0] (out), J[6..0] (out), K[6..0] (out), L[6..0] (out), M[6..0] (out), N[6..0] (out), O[6..0] (out), P[6..0] (out), S[3..0] (in), Y[6..0] (in)

## M7_B2B1
designator U?
2x7-Bit Bus to 1x7-Bit Bus Multiplexer; SubClass: BnB1; PortSize: 7; PortStyle: Bus Version; ArchiveName: GENERIC; VHDLIB_SIM: GENERIC_LIB; Published: 29-Jan-2004; Publisher: Altium Limited; LastRevisionNo: 1.00.00; HelpURL: CR0118 FPGA Generic Library Guide.pdf#page=366; ComponentLink1URL: CR0137 FPGA Multiplexer Resource Usage.pdf#page=270; ComponentLink1Description: Core &Resource Usage; FunctionalClass: Multiplexer
pins: A[6..0] (in), B[6..0] (in), S0 (in), Y[6..0] (out)

## M7_B2B1E
designator U?
2x7-Bit Bus to 1x7-Bit Bus Multiplexer With Enable; SubClass: BnB1; Enable: High; PortSize: 7; PortStyle: Bus Version; ArchiveName: GENERIC; VHDLIB_SIM: GENERIC_LIB; Published: 29-Jan-2004; Publisher: Altium Limited; LastRevisionNo: 1.00.00; HelpURL: CR0118 FPGA Generic Library Guide.pdf#page=366; ComponentLink1URL: CR0137 FPGA Multiplexer Resource Usage.pdf#page=271; ComponentLink1Description: Core &Resource Usage; FunctionalClass: Multiplexer
pins: A[6..0] (in), B[6..0] (in), EI (in), S0 (in), Y[6..0] (out)

## M7_B4B1
designator U?
4x7-Bit Bus to 1x7-Bit Bus Multiplexer; SubClass: BnB1; PortSize: 7; PortStyle: Bus Version; ArchiveName: GENERIC; VHDLIB_SIM: GENERIC_LIB; Published: 29-Jan-2004; Publisher: Altium Limited; LastRevisionNo: 1.00.00; HelpURL: CR0118 FPGA Generic Library Guide.pdf#page=374; ComponentLink1URL: CR0137 FPGA Multiplexer Resource Usage.pdf#page=272; ComponentLink1Description: Core &Resource Usage; FunctionalClass: Multiplexer
pins: A[6..0] (in), B[6..0] (in), C[6..0] (in), D[6..0] (in), S0 (in), S1 (in), Y[6..0] (out)

## M7_B4B1_SB
designator U?
4x7-Bit Bus to 1x7-Bit Bus Multiplexer With Bus Version Select; SubClass: BnB1; BusBusSelect: True; PortSize: 7; ArchiveName: GENERIC; VHDLIB_SIM: GENERIC_LIB; Published: 31-May-2004; Publisher: Altium Limited; LastRevisionNo: 1.00.00; HelpURL: CR0118 FPGA Generic Library Guide.pdf#page=370; ComponentLink1URL: CR0137 FPGA Multiplexer Resource Usage.pdf#page=273; ComponentLink1Description: Core &Resource Usage; FunctionalClass: Multiplexer; PortStyle: Bus Version
pins: A[6..0] (in), B[6..0] (in), C[6..0] (in), D[6..0] (in), S[1..0] (in), Y[6..0] (out)

## M7_B4B1E
designator U?
4x7-Bit Bus to 1x7-Bit Bus Multiplexer With Enable; SubClass: BnB1; Enable: High; PortSize: 7; PortStyle: Bus Version; ArchiveName: GENERIC; VHDLIB_SIM: GENERIC_LIB; Published: 29-Jan-2004; Publisher: Altium Limited; LastRevisionNo: 1.00.00; HelpURL: CR0118 FPGA Generic Library Guide.pdf#page=374; ComponentLink1URL: CR0137 FPGA Multiplexer Resource Usage.pdf#page=274; ComponentLink1Description: Core &Resource Usage; FunctionalClass: Multiplexer
pins: A[6..0] (in), B[6..0] (in), C[6..0] (in), D[6..0] (in), EI (in), S0 (in), S1 (in), Y[6..0] (out)

## M7_B4B1E_SB
designator U?
4x7-Bit Bus to 1x7-Bit Bus Multiplexer With Enable With Bus Version Select; SubClass: BnB1; Enable: High; BusBusSelect: True; PortSize: 7; ArchiveName: GENERIC; VHDLIB_SIM: GENERIC_LIB; Published: 31-May-2004; Publisher: Altium Limited; LastRevisionNo: 1.00.00; HelpURL: CR0118 FPGA Generic Library Guide.pdf#page=374; ComponentLink1URL: CR0137 FPGA Multiplexer Resource Usage.pdf#page=275; ComponentLink1Description: Core &Resource Usage; FunctionalClass: Multiplexer; PortStyle: Bus Version
pins: A[6..0] (in), B[6..0] (in), C[6..0] (in), D[6..0] (in), EI (in), S[1..0] (in), Y[6..0] (out)

## M7_B8B1
designator U?
8x7-Bit Bus to 1x7-Bit Bus Multiplexer; SubClass: BnB1; PortSize: 7; PortStyle: Bus Version; ArchiveName: GENERIC; VHDLIB_SIM: GENERIC_LIB; Published: 29-Jan-2004; Publisher: Altium Limited; LastRevisionNo: 1.00.00; HelpURL: CR0118 FPGA Generic Library Guide.pdf#page=383; ComponentLink1URL: CR0137 FPGA Multiplexer Resource Usage.pdf#page=276; ComponentLink1Description: Core &Resource Usage; FunctionalClass: Multiplexer
pins: A[6..0] (in), B[6..0] (in), C[6..0] (in), D[6..0] (in), E[6..0] (in), F[6..0] (in), G[6..0] (in), H[6..0] (in), S0 (in), S1 (in), S2 (in), Y[6..0] (out)

## M7_B8B1_SB
designator U?
8x7-Bit Bus to 1x7-Bit Bus Multiplexer With Bus Version Select; SubClass: BnB1; BusBusSelect: True; PortSize: 7; ArchiveName: GENERIC; VHDLIB_SIM: GENERIC_LIB; Published: 31-May-2004; Publisher: Altium Limited; LastRevisionNo: 1.00.00; HelpURL: CR0118 FPGA Generic Library Guide.pdf#page=379; ComponentLink1URL: CR0137 FPGA Multiplexer Resource Usage.pdf#page=277; ComponentLink1Description: Core &Resource Usage; FunctionalClass: Multiplexer; PortStyle: Bus Version
pins: A[6..0] (in), B[6..0] (in), C[6..0] (in), D[6..0] (in), E[6..0] (in), F[6..0] (in), G[6..0] (in), H[6..0] (in), S[2..0] (in), Y[6..0] (out)

## M7_B8B1E
designator U?
8x7-Bit Bus to 1x7-Bit Bus Multiplexer With Enable; SubClass: BnB1; Enable: High; PortSize: 7; PortStyle: Bus Version; ArchiveName: GENERIC; VHDLIB_SIM: GENERIC_LIB; Published: 29-Jan-2004; Publisher: Altium Limited; LastRevisionNo: 1.00.00; HelpURL: CR0118 FPGA Generic Library Guide.pdf#page=383; ComponentLink1URL: CR0137 FPGA Multiplexer Resource Usage.pdf#page=278; ComponentLink1Description: Core &Resource Usage; FunctionalClass: Multiplexer
pins: A[6..0] (in), B[6..0] (in), C[6..0] (in), D[6..0] (in), E[6..0] (in), EI (in), F[6..0] (in), G[6..0] (in), H[6..0] (in), S0 (in), S1 (in), S2 (in), Y[6..0] (out)

## M7_B8B1E_SB
designator U?
8x7-Bit Bus to 1x7-Bit Bus Multiplexer With Enable With Bus Version Select; SubClass: BnB1; Enable: High; BusBusSelect: True; PortSize: 7; ArchiveName: GENERIC; VHDLIB_SIM: GENERIC_LIB; Published: 31-May-2004; Publisher: Altium Limited; LastRevisionNo: 1.00.00; HelpURL: CR0118 FPGA Generic Library Guide.pdf#page=383; ComponentLink1URL: CR0137 FPGA Multiplexer Resource Usage.pdf#page=279; ComponentLink1Description: Core &Resource Usage; FunctionalClass: Multiplexer; PortStyle: Bus Version
pins: A[6..0] (in), B[6..0] (in), C[6..0] (in), D[6..0] (in), E[6..0] (in), EI (in), F[6..0] (in), G[6..0] (in), H[6..0] (in), S[2..0] (in), Y[6..0] (out)

## M7_B16B1
designator U?
16x7-Bit Bus to 1x7-Bit Bus Multiplexer; SubClass: BnB1; PortSize: 7; PortStyle: Bus Version; ArchiveName: GENERIC; VHDLIB_SIM: GENERIC_LIB; Published: 29-Jan-2004; Publisher: Altium Limited; LastRevisionNo: 1.00.00; HelpURL: CR0118 FPGA Generic Library Guide.pdf#page=388; ComponentLink1URL: CR0137 FPGA Multiplexer Resource Usage.pdf#page=280; ComponentLink1Description: Core &Resource Usage; FunctionalClass: Multiplexer
pins: A[6..0] (in), B[6..0] (in), C[6..0] (in), D[6..0] (in), E[6..0] (in), F[6..0] (in), G[6..0] (in), H[6..0] (in), I[6..0] (in), J[6..0] (in), K[6..0] (in), L[6..0] (in), M[6..0] (in), N[6..0] (in), O[6..0] (in), P[6..0] (in), S0 (in), S1 (in), S2 (in), S3 (in), Y[6..0] (out)

## M7_B16B1_SB
designator U?
16x7-Bit Bus to 1x7-Bit Bus Multiplexer With Bus Version Select; SubClass: BnB1; BusBusSelect: True; PortSize: 7; ArchiveName: GENERIC; VHDLIB_SIM: GENERIC_LIB; Published: 29-Jan-2004; Publisher: Altium Limited; LastRevisionNo: 1.00.00; HelpURL: CR0118 FPGA Generic Library Guide.pdf#page=388; ComponentLink1URL: CR0137 FPGA Multiplexer Resource Usage.pdf#page=281; ComponentLink1Description: Core &Resource Usage; FunctionalClass: Multiplexer; PortStyle: Bus Version
pins: A[6..0] (in), B[6..0] (in), C[6..0] (in), D[6..0] (in), E[6..0] (in), F[6..0] (in), G[6..0] (in), H[6..0] (in), I[6..0] (in), J[6..0] (in), K[6..0] (in), L[6..0] (in), M[6..0] (in), N[6..0] (in), O[6..0] (in), P[6..0] (in), S[3..0] (in), Y[6..0] (out)

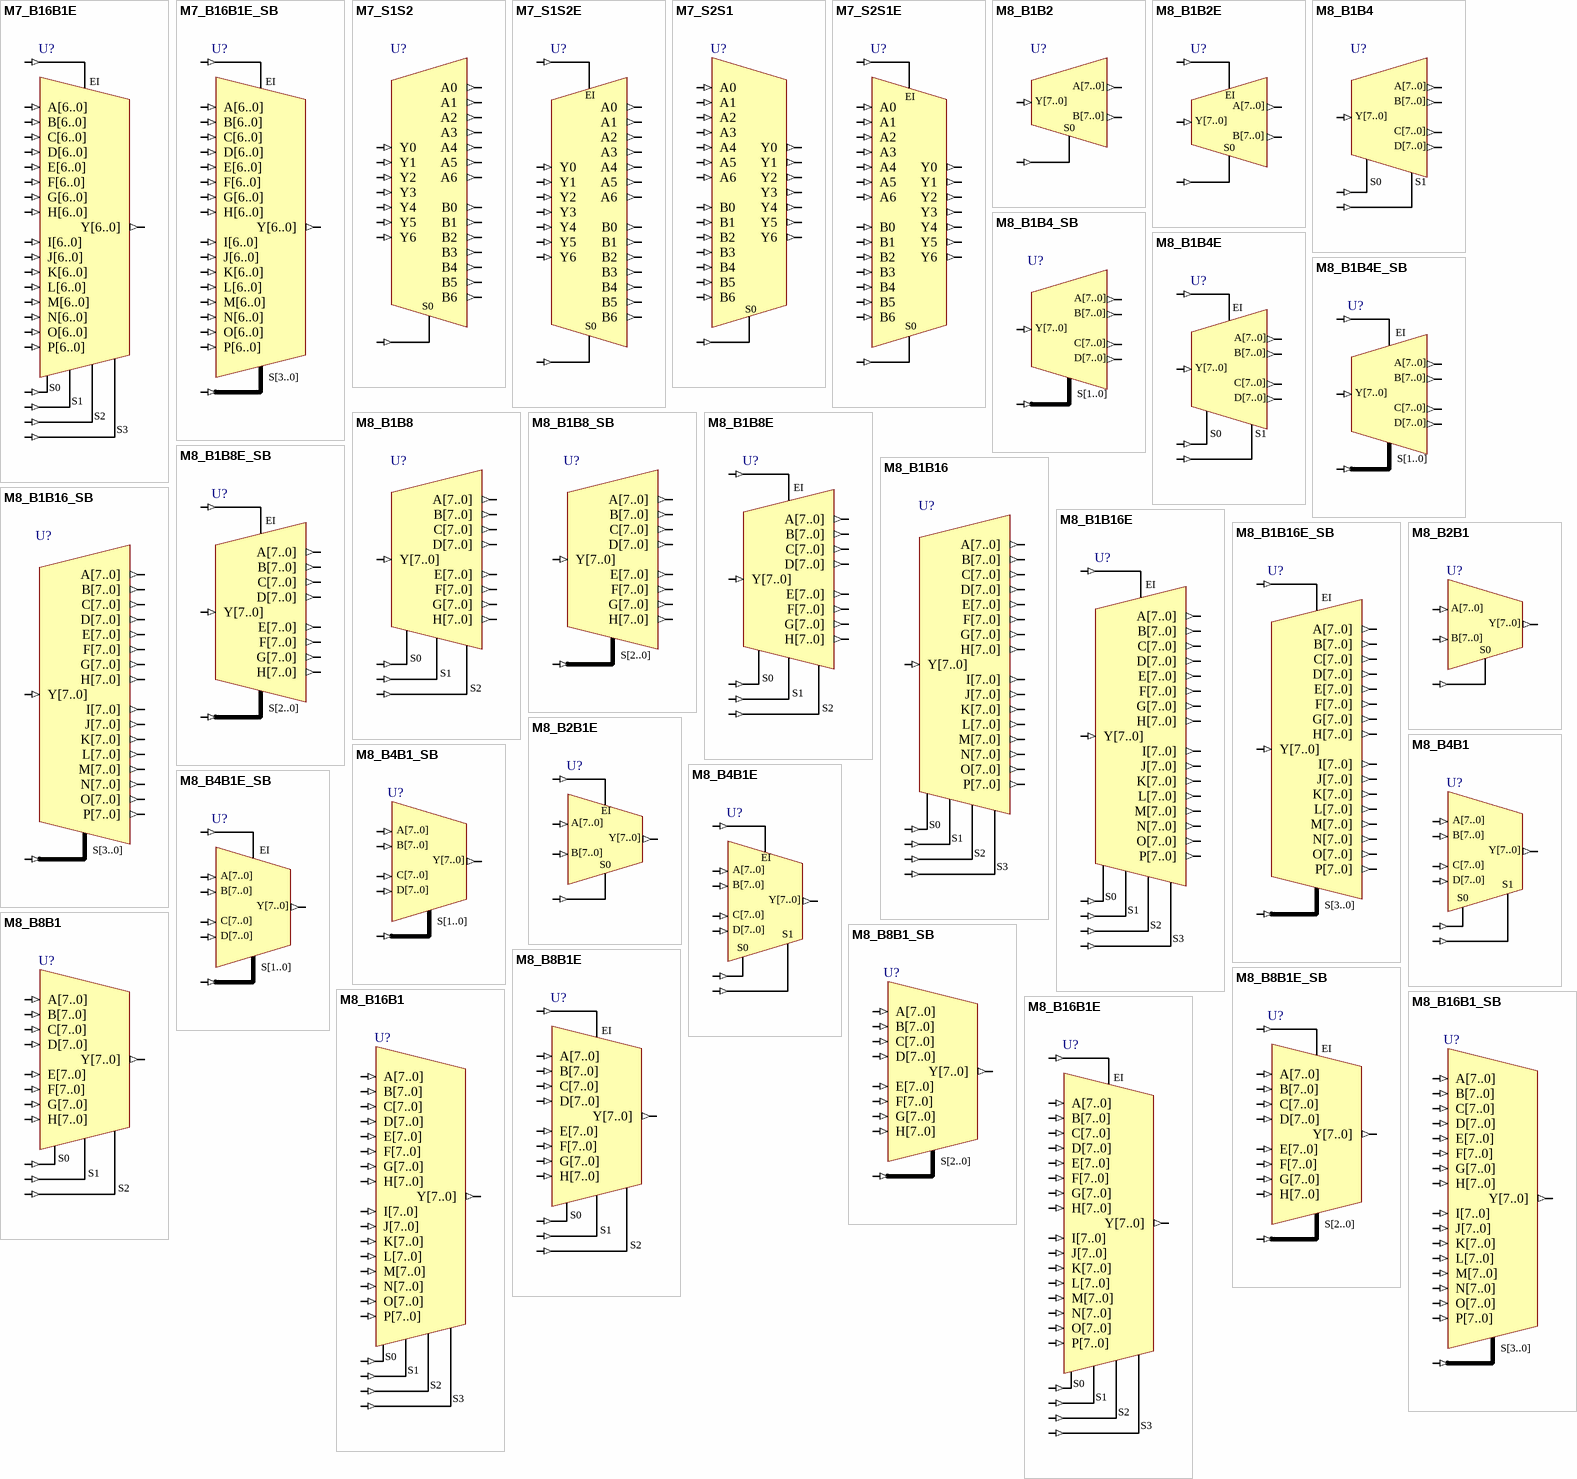
[diagram p28: symbols M7_B16B1E to M8_B16B1E]

## M7_B16B1E
designator U?
16x7-Bit Bus to 1x7-Bit Bus Multiplexer With Enable; SubClass: BnB1; Enable: High; PortSize: 7; PortStyle: Bus Version; ArchiveName: GENERIC; VHDLIB_SIM: GENERIC_LIB; Published: 29-Jan-2004; Publisher: Altium Limited; LastRevisionNo: 1.00.00; HelpURL: CR0118 FPGA Generic Library Guide.pdf#page=393; ComponentLink1URL: CR0137 FPGA Multiplexer Resource Usage.pdf#page=282; ComponentLink1Description: Core &Resource Usage; FunctionalClass: Multiplexer
pins: A[6..0] (in), B[6..0] (in), C[6..0] (in), D[6..0] (in), E[6..0] (in), EI (in), F[6..0] (in), G[6..0] (in), H[6..0] (in), I[6..0] (in), J[6..0] (in), K[6..0] (in), L[6..0] (in), M[6..0] (in), N[6..0] (in), O[6..0] (in), P[6..0] (in), S0 (in), S1 (in), S2 (in), S3 (in), Y[6..0] (out)

## M7_B16B1E_SB
designator U?
16x7-Bit Bus to 1x7-Bit Bus Multiplexer With Enable and Bus Version Select; SubClass: BnB1; Enable: High; BusBusSelect: True; PortSize: 7; ArchiveName: GENERIC; VHDLIB_SIM: GENERIC_LIB; Published: 29-Jan-2004; Publisher: Altium Limited; LastRevisionNo: 1.00.00; HelpURL: CR0118 FPGA Generic Library Guide.pdf#page=393; ComponentLink1URL: CR0137 FPGA Multiplexer Resource Usage.pdf#page=283; ComponentLink1Description: Core &Resource Usage; FunctionalClass: Multiplexer; PortStyle: Bus Version
pins: A[6..0] (in), B[6..0] (in), C[6..0] (in), D[6..0] (in), E[6..0] (in), EI (in), F[6..0] (in), G[6..0] (in), H[6..0] (in), I[6..0] (in), J[6..0] (in), K[6..0] (in), L[6..0] (in), M[6..0] (in), N[6..0] (in), O[6..0] (in), P[6..0] (in), S[3..0] (in), Y[6..0] (out)

## M7_S1S2
designator U?
1x7-Single Wire to 1x7-Single Wire Multiplexer (Demultiplex); SubClass: S1Sn; PortSize: 7; PortStyle: Single Pin Version; ArchiveName: GENERIC; VHDLIB_SIM: GENERIC_LIB; Published: 29-Jan-2004; Publisher: Altium Limited; LastRevisionNo: 1.00.00; HelpURL: CR0118 FPGA Generic Library Guide.pdf#page=328; ComponentLink1URL: CR0137 FPGA Multiplexer Resource Usage.pdf#page=284; ComponentLink1Description: Core &Resource Usage; FunctionalClass: Multiplexer
pins: A0 (out), A1 (out), A2 (out), A3 (out), A4 (out), A5 (out), A6 (out), B0 (out), B1 (out), B2 (out), B3 (out), B4 (out), B5 (out), B6 (out), S0 (in), Y0 (in), Y1 (in), Y2 (in), Y3 (in), Y4 (in), Y5 (in), Y6 (in)

## M7_S1S2E
designator U?
1x7-Single Wire to 1x7-Single Wire Multiplexer (Demultiplex) With Enable; SubClass: S1Sn; Enable: High; PortSize: 7; PortStyle: Single Pin Version; ArchiveName: GENERIC; VHDLIB_SIM: GENERIC_LIB; Published: 29-Jan-2004; Publisher: Altium Limited; LastRevisionNo: 1.00.00; HelpURL: CR0118 FPGA Generic Library Guide.pdf#page=331; ComponentLink1URL: CR0137 FPGA Multiplexer Resource Usage.pdf#page=285; ComponentLink1Description: Core &Resource Usage; FunctionalClass: Multiplexer
pins: A0 (out), A1 (out), A2 (out), A3 (out), A4 (out), A5 (out), A6 (out), B0 (out), B1 (out), B2 (out), B3 (out), B4 (out), B5 (out), B6 (out), EI (in), S0 (in), Y0 (in), Y1 (in), Y2 (in), Y3 (in), Y4 (in), Y5 (in), Y6 (in)

## M7_S2S1
designator U?
2x7-Single Wire to 2x7-Single Wire Multiplexer; SubClass: SnS1; PortSize: 7; PortStyle: Single Pin Version; ArchiveName: GENERIC; VHDLIB_SIM: GENERIC_LIB; Published: 29-Jan-2004; Publisher: Altium Limited; LastRevisionNo: 1.00.00; HelpURL: CR0118 FPGA Generic Library Guide.pdf#page=366; ComponentLink1URL: CR0137 FPGA Multiplexer Resource Usage.pdf#page=286; ComponentLink1Description: Core &Resource Usage; FunctionalClass: Multiplexer
pins: A0 (in), A1 (in), A2 (in), A3 (in), A4 (in), A5 (in), A6 (in), B0 (in), B1 (in), B2 (in), B3 (in), B4 (in), B5 (in), B6 (in), S0 (in), Y0 (out), Y1 (out), Y2 (out), Y3 (out), Y4 (out), Y5 (out), Y6 (out)

## M7_S2S1E
designator U?
2x7-Single Wire to 2x7-Single Wire Multiplexer With Enable; SubClass: SnS1; Enable: High; PortSize: 7; PortStyle: Single Pin Version; ArchiveName: GENERIC; VHDLIB_SIM: GENERIC_LIB; Published: 29-Jan-2004; Publisher: Altium Limited; LastRevisionNo: 1.00.00; HelpURL: CR0118 FPGA Generic Library Guide.pdf#page=366; ComponentLink1URL: CR0137 FPGA Multiplexer Resource Usage.pdf#page=287; ComponentLink1Description: Core &Resource Usage; FunctionalClass: Multiplexer
pins: A0 (in), A1 (in), A2 (in), A3 (in), A4 (in), A5 (in), A6 (in), B0 (in), B1 (in), B2 (in), B3 (in), B4 (in), B5 (in), B6 (in), EI (in), S0 (in), Y0 (out), Y1 (out), Y2 (out), Y3 (out), Y4 (out), Y5 (out), Y6 (out)

## M8_B1B2
designator U?
1x8-Bit Bus to 2x8-Bit Bus Multiplexer (Demultiplex); SubClass: B1Bn; PortSize: 8; PortStyle: Bus Version; ArchiveName: GENERIC; VHDLIB_SIM: GENERIC_LIB; Published: 29-Jan-2004; Publisher: Altium Limited; LastRevisionNo: 1.00.00; HelpURL: CR0118 FPGA Generic Library Guide.pdf#page=328; ComponentLink1URL: CR0137 FPGA Multiplexer Resource Usage.pdf#page=288; ComponentLink1Description: Core &Resource Usage; FunctionalClass: Multiplexer
pins: A[7..0] (out), B[7..0] (out), S0 (in), Y[7..0] (in)